# Altium footprint library THT_Ceramic_cap_Pcb.PcbLib: 2 footprints
Each footprint in its own frame and in the unit in brackets; x right, y up, seen from the top. Pads: shape width x height; smd on the part's side, far side on the other; paste and mask are expansions set on the pad; w line width, h text height; cw(c..) or ccw(c..) is an arc to the next point about the centre after c.
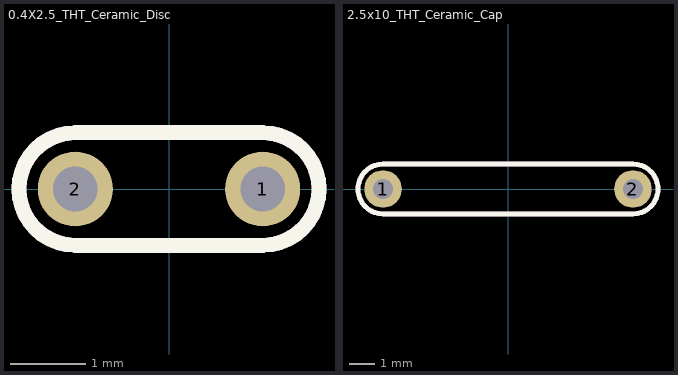
[diagram p0: the footprints below, top view; thin cyan lines are the x and y axes]

## 0.4X2.5_THT_Ceramic_Disc [mm]
pads (2):
  round 1 hole 0.6: 1(1.25,0) 2(-1.25,0)
Top Overlay:
  lines w0.2: -2,0 cw(c-1.25,0) -1.25,0.75 1.25,0.75 cw(c1.25,0) 2,0 cw(c1.25,0) 1.25,-0.75 -1.25,-0.75 cw(c-1.25,0) -2,0
Mechanical 29:
  lines w0.2: -2,0 cw(c-1.25,0) -1.25,0.75 1.25,0.75 cw(c1.25,0) 2,0 cw(c1.25,0) 1.25,-0.75 -1.25,-0.75 cw(c-1.25,0) -2,0
  text "'.Designator'" at -0.996,1.254 h1.5

## 2.5x10_THT_Ceramic_Cap [mm]
pads (2):
  round 1.5 hole 0.8: 1(-5,0) 2(5,0)
Top Overlay:
  lines w0.2: -5,-1 cw(c-5,0) -5,1 0,1 5,1 cw(c5,0) 5,-1 0,-1 -5,-1
Mechanical 29:
  lines w0.2: -5,-1 cw(c-5,0) -5,1 0,1 5,1 cw(c5,0) 5,-1 0,-1 -5,-1
  text "'.Designator'" at -4.3,-0.467 h1
3D body "1n_1000V_Ceramic_THT_Cap.SLDPRT": height 23, standoff -2, extent -10,-1.25 10,1.25